# Altium footprint library Battery Holder.PcbLib: 3 footprints
Each footprint in its own frame and in the unit in brackets; x right, y up, seen from the top. Pads: shape width x height; smd on the part's side, far side on the other; paste and mask are expansions set on the pad; w line width, h text height; cw(c..) or ccw(c..) is an arc to the next point about the centre after c.
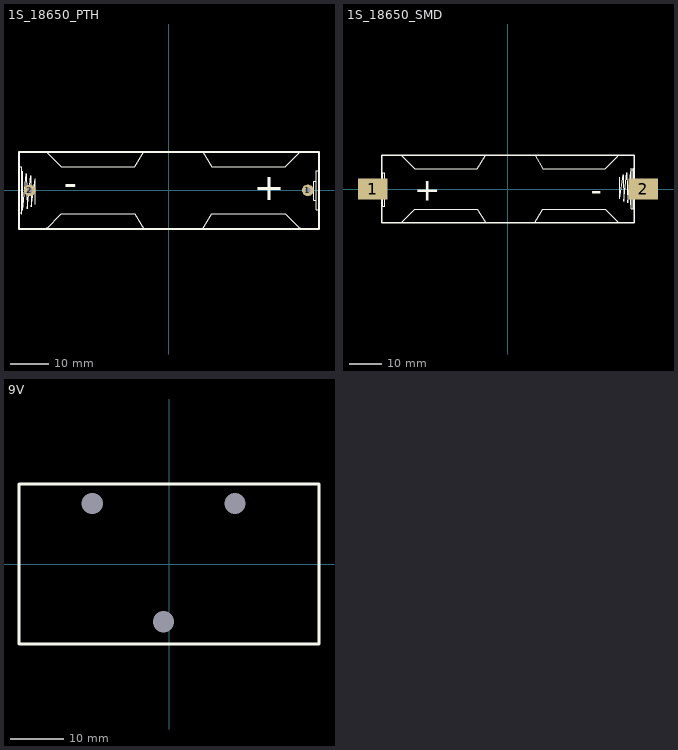
[diagram p0: the footprints below, top view; thin cyan lines are the x and y axes]

## 1S_18650_PTH [mm] "Battery 18650 Holder for 1 Cell, PTH Version"
pads (2):
  round 3 hole 1.5: 1(36.138,0.003) 2(-36.138,-0.003)
Top Overlay:
  lines w0.254: -38.74,-6.22 -38.74,6.099 -38.232,6.099 -38.232,-6.22 ; -38.74,-5.839 -38.232,-5.839 ; -37.978,4.956 -37.978,-5.204 -37.089,4.321 -36.835,-4.823 -35.819,3.813 -35.692,-4.315 -34.676,3.051 -34.676,-3.553 ; -31.755,-9.926 -27.945,-6.116 -8.851,-6.116 -6.482,-10.03 ; -31.755,9.933 -27.945,6.123 -8.851,6.123 -6.482,10.036 ; 8.802,-10.006 11.171,-6.093 30.265,-6.093 34.075,-9.903 ; 8.802,10.013 11.171,6.099 30.265,6.099 34.075,9.909 ; 37.714,-2.537 38.349,-2.537 38.349,2.416 37.714,2.416 37.714,-2.537 ; 38.349,-5.077 38.984,-5.077 38.984,5.083 38.349,5.083 38.349,-5.077
  lines w0.508: -31.755,-10.03 -31.755,-9.926 ; -31.755,9.933 -31.755,10.036 ; 34.075,-10.006 34.075,-9.903 ; 34.075,9.909 34.075,10.013 ; -38.932,-10.036 39.046,-10.036 39.046,10.03 -38.932,10.03 -38.932,-10.036
  text "+" at 30.111,3.446 h7
  text "-" at -23.737,3.747 h7
3D body "1s_18650_PTH.stp": height 21.5, standoff -3.99, extent -38.954,-10.003 39.046,9.997

## 1S_18650_SMD [mm] "Battery 18650 Holder for 1 Cell, SMD Version"
pads (2):
  rect 9x6.35 smd: 1(-41.33,0) 2(41.33,0)
Top Overlay:
  lines w0.254: -32.267,-10.073 -32.267,-9.969 -28.457,-6.159 -9.363,-6.159 -6.994,-10.073 ; -32.267,10.12 -32.267,10.016 -28.457,6.206 -9.363,6.206 -6.994,10.12 ; 8.29,-10.05 10.659,-6.136 29.753,-6.136 33.563,-9.946 33.563,-10.05 ; 8.29,10.097 10.659,6.183 29.753,6.183 33.563,9.993 33.563,10.097 ; 34.148,3.627 34.148,-2.977 35.164,4.389 35.291,-3.739 36.307,4.897 36.561,-4.247 37.45,5.278 37.45,-4.882 ; 37.704,5.913 38.212,5.913 ; 37.704,6.294 37.704,-6.025 38.212,-6.025 38.212,6.294 ; -38.242,-5.263 -37.607,-5.263 -37.607,4.897 -38.242,4.897 -38.242,-5.263 ; -37.607,-2.596 -36.972,-2.596 -36.972,2.357 -37.607,2.357 -37.607,-2.596
  lines w0.508: -38.525,-10.325 -38.525,10.325 38.525,10.325 38.525,-10.325 -38.525,-10.325
  text "-" at 25.245,-3.817 h7
  text "+" at -28.603,-3.516 h7
3D body "1s_18650_SMD.stp": height 16, standoff -3.3, extent -43.232,-10.448 43.208,10.352

## 9V [mil] "9V Battery Holder, Representative, no Connection to Board"
pads (3):
  round 80 hole 157.48 unplated: ""(-570.43,450.86) ""(-39.72,-429.06) ""(491.38,450.86)
Top Overlay:
  lines w20: -1115,-595 1115,-595 1115,595 -1115,595 -1115,-595
3D body "9V Battery Holder.SLDPRT": height 814.96, standoff 3.15, extent -1110,-590.55 1117.21,590.55